# Altium integrated library Analog Devices Amplifiers and Linear Voltage References.IntLib: 547 symbols (part 15 of 20)
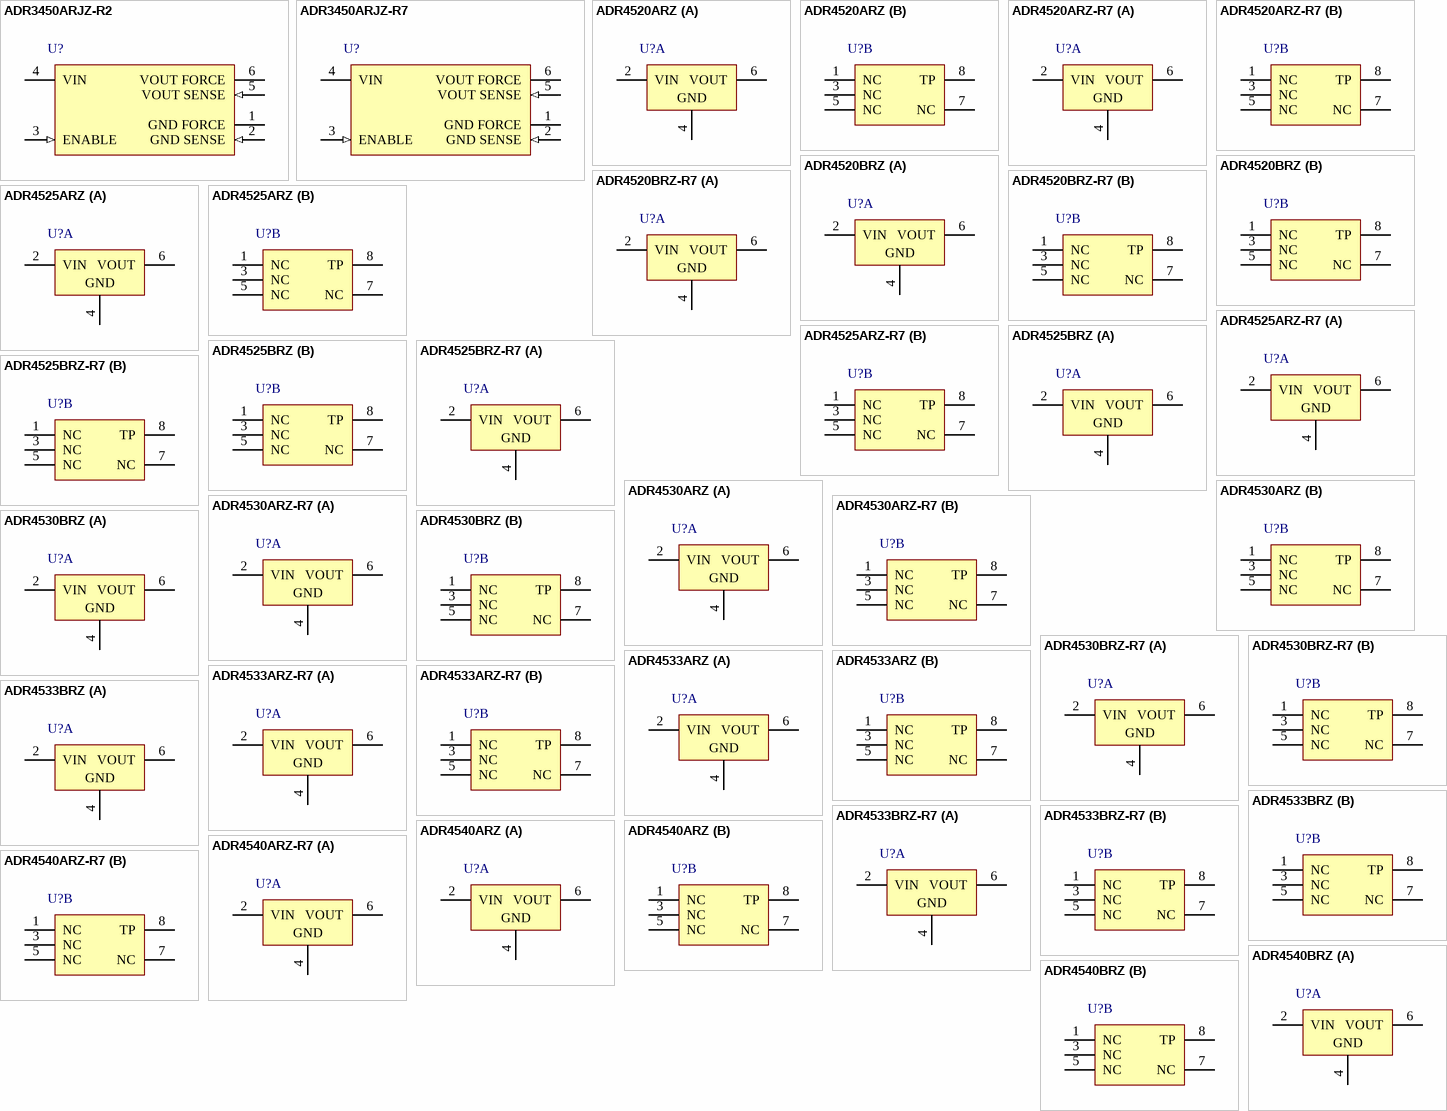
[diagram p34: symbols ADR3450ARJZ-R2 to ADR4540BRZ]

## ADR4533BRZ
designator U?
Ultralow Noise, High Accuracy Voltage Reference, 3.3 V Output, 3 to 15 V Supply, Industrial, 8-pin SOIC (R-8), Tube; Manufacturer: Analog Devices; PartNumber: ADR4533BRZ; Max V Supply (V): 15; Min V Supply (V): 3; Ref Out TC (ppm/C): 2; Vout: 3.3V; DatasheetVersion: Rev. 0; PackageVersion: 060506-A, 06/2006; PackageReference: R-8; PackageDescription: 8-Pin Standard Small Outline Package, Body 4.9 x 3.9 mm, Pitch 1.27 mm; Supplier 1: Digi-Key; Supplier Part Number 1: ADR4533BRZ-ND; Supplier 2: Farnell; Supplier Part Number 2: 2112690; Supplier 3: Mouser; Supplier Part Number 3: 584-ADR4533BRZ; Packing: Tube; Operating Temp Range: -40 to 125 degC; Mounting Technology: Surface Mount; Code_JEDEC: MS-012-AA; ComponentLink1Description: Manufacturer URL; ComponentLink1URL: http://www.analog.com/en/index.html; ComponentLink2Description: Datasheet; ComponentLink2URL: http://www.analog.com/static/imported-files/data_sheets/ADR4520_4525_4530_4533_4540_4550.pdf; ComponentLink3Description: Package Specification; ComponentLink3URL: http://www.analog.com/static/imported-files/packages/PKG_PDF/SOIC_Narrow%20(R)/R_8.pdf; ComponentLink4Description: URL Link1; ComponentLink4URL: Product URL:http://www.analog.com/en/special-linear-functions/voltage-references/adr4533/products/product.html
footprint ADI-R-8_N (SOIC, 8-Leads, Body 4.9x3.9mm, Pitch 1.27mm, IPC Medium Density)
footprint ADI-R-8_L (SOIC, 8-Leads, Body 4.9x3.9mm, Pitch 1.27mm, IPC High Density)
footprint ADI-R-8_M (SOIC, 8-Leads, Body 4.9x3.9mm, Pitch 1.27mm, IPC Low Density)
part A pins: 2 VIN (power) "Input Voltage Connection.", 4 GND (power) "Ground.", 6 VOUT (power) "Output Voltage."
part B pins: 1 NC "No Connect. This pin is not connected internally.", 3 NC "No Connect. This pin is not connected internally.", 5 NC "No Connect. This pin is not connected internally.", 7 NC "No Connect. This pin is not connected internally.", 8 TP "Test Pin. Do not connect."

## ADR4533BRZ-R7
designator U?
Ultralow Noise, High Accuracy Voltage Reference, 3.3 V Output, 3 to 15 V Supply, Industrial, 8-pin SOIC (R-8), Reel; Manufacturer: Analog Devices; PartNumber: ADR4533BRZ-R7; Max V Supply (V): 15; Min V Supply (V): 3; Ref Out TC (ppm/C): 2; Vout: 3.3V; DatasheetVersion: Rev. 0; PackageVersion: 060506-A, 06/2006; PackageReference: R-8; PackageDescription: 8-Pin Standard Small Outline Package, Body 4.9 x 3.9 mm, Pitch 1.27 mm; Supplier 1: Digi-Key; Supplier Part Number 1: ADR4533BRZ-R7-ND; Supplier 2: Mouser; Supplier Part Number 2: 584-ADR4533BRZ-R7; Packing: Reel; Operating Temp Range: -40 to 125 degC; Mounting Technology: Surface Mount; Code_JEDEC: MS-012-AA; ComponentLink1Description: Manufacturer URL; ComponentLink1URL: http://www.analog.com/en/index.html; ComponentLink2Description: Datasheet; ComponentLink2URL: http://www.analog.com/static/imported-files/data_sheets/ADR4520_4525_4530_4533_4540_4550.pdf; ComponentLink3Description: Package Specification; ComponentLink3URL: http://www.analog.com/static/imported-files/packages/PKG_PDF/SOIC_Narrow%20(R)/R_8.pdf; ComponentLink4Description: URL Link1; ComponentLink4URL: Product URL:http://www.analog.com/en/special-linear-functions/voltage-references/adr4533/products/product.html
footprint ADI-R-8_N (SOIC, 8-Leads, Body 4.9x3.9mm, Pitch 1.27mm, IPC Medium Density)
footprint ADI-R-8_L (SOIC, 8-Leads, Body 4.9x3.9mm, Pitch 1.27mm, IPC High Density)
footprint ADI-R-8_M (SOIC, 8-Leads, Body 4.9x3.9mm, Pitch 1.27mm, IPC Low Density)
part A pins: 2 VIN (power) "Input Voltage Connection.", 4 GND (power) "Ground.", 6 VOUT (power) "Output Voltage."
part B pins: 1 NC "No Connect. This pin is not connected internally.", 3 NC "No Connect. This pin is not connected internally.", 5 NC "No Connect. This pin is not connected internally.", 7 NC "No Connect. This pin is not connected internally.", 8 TP "Test Pin. Do not connect."

## ADR4540ARZ
designator U?
Ultralow Noise, High Accuracy Voltage Reference, 4.096 V Output, 3 to 15 V Supply, Industrial, 8-pin SOIC (R-8), Tube; Manufacturer: Analog Devices; PartNumber: ADR4540ARZ; Max V Supply (V): 15; Min V Supply (V): 3; Ref Out TC (ppm/C): 4; Vout: 4.096V; DatasheetVersion: Rev. 0; PackageVersion: 060506-A, 06/2006; PackageReference: R-8; PackageDescription: 8-Pin Standard Small Outline Package, Body 4.9 x 3.9 mm, Pitch 1.27 mm; Supplier 1: Digi-Key; Supplier Part Number 1: ADR4540ARZ-ND; Supplier 2: Farnell; Supplier Part Number 2: 2112691; Supplier 3: Mouser; Supplier Part Number 3: 584-ADR4540ARZ; Packing: Tube; Operating Temp Range: -40 to 125 degC; Mounting Technology: Surface Mount; Code_JEDEC: MS-012-AA; ComponentLink1Description: Manufacturer URL; ComponentLink1URL: http://www.analog.com/en/index.html; ComponentLink2Description: Datasheet; ComponentLink2URL: http://www.analog.com/static/imported-files/data_sheets/ADR4520_4525_4530_4533_4540_4550.pdf; ComponentLink3Description: Package Specification; ComponentLink3URL: http://www.analog.com/static/imported-files/packages/PKG_PDF/SOIC_Narrow%20(R)/R_8.pdf; ComponentLink4Description: URL Link1; ComponentLink4URL: Product URL:http://www.analog.com/en/special-linear-functions/voltage-references/adr4540/products/product.html
footprint ADI-R-8_N (SOIC, 8-Leads, Body 4.9x3.9mm, Pitch 1.27mm, IPC Medium Density)
footprint ADI-R-8_L (SOIC, 8-Leads, Body 4.9x3.9mm, Pitch 1.27mm, IPC High Density)
footprint ADI-R-8_M (SOIC, 8-Leads, Body 4.9x3.9mm, Pitch 1.27mm, IPC Low Density)
part A pins: 2 VIN (power) "Input Voltage Connection.", 4 GND (power) "Ground.", 6 VOUT (power) "Output Voltage."
part B pins: 1 NC "No Connect. This pin is not connected internally.", 3 NC "No Connect. This pin is not connected internally.", 5 NC "No Connect. This pin is not connected internally.", 7 NC "No Connect. This pin is not connected internally.", 8 TP "Test Pin. Do not connect."

## ADR4540ARZ-R7
designator U?
Ultralow Noise, High Accuracy Voltage Reference, 4.096 V Output, 3 to 15 V Supply, Industrial, 8-pin SOIC (R-8), Reel; Manufacturer: Analog Devices; PartNumber: ADR4540ARZ-R7; Max V Supply (V): 15; Min V Supply (V): 3; Ref Out TC (ppm/C): 4; Vout: 4.096V; DatasheetVersion: Rev. 0; PackageVersion: 060506-A, 06/2006; PackageReference: R-8; PackageDescription: 8-Pin Standard Small Outline Package, Body 4.9 x 3.9 mm, Pitch 1.27 mm; Supplier 1: Digi-Key; Supplier Part Number 1: ADR4540ARZ-R7-ND; Supplier 2: Mouser; Supplier Part Number 2: 584-ADR4540ARZ-R7; Packing: Reel; Operating Temp Range: -40 to 125 degC; Mounting Technology: Surface Mount; Code_JEDEC: MS-012-AA; ComponentLink1Description: Manufacturer URL; ComponentLink1URL: http://www.analog.com/en/index.html; ComponentLink2Description: Datasheet; ComponentLink2URL: http://www.analog.com/static/imported-files/data_sheets/ADR4520_4525_4530_4533_4540_4550.pdf; ComponentLink3Description: Package Specification; ComponentLink3URL: http://www.analog.com/static/imported-files/packages/PKG_PDF/SOIC_Narrow%20(R)/R_8.pdf; ComponentLink4Description: URL Link1; ComponentLink4URL: Product URL:http://www.analog.com/en/special-linear-functions/voltage-references/adr4540/products/product.html
footprint ADI-R-8_N (SOIC, 8-Leads, Body 4.9x3.9mm, Pitch 1.27mm, IPC Medium Density)
footprint ADI-R-8_L (SOIC, 8-Leads, Body 4.9x3.9mm, Pitch 1.27mm, IPC High Density)
footprint ADI-R-8_M (SOIC, 8-Leads, Body 4.9x3.9mm, Pitch 1.27mm, IPC Low Density)
part A pins: 2 VIN (power) "Input Voltage Connection.", 4 GND (power) "Ground.", 6 VOUT (power) "Output Voltage."
part B pins: 1 NC "No Connect. This pin is not connected internally.", 3 NC "No Connect. This pin is not connected internally.", 5 NC "No Connect. This pin is not connected internally.", 7 NC "No Connect. This pin is not connected internally.", 8 TP "Test Pin. Do not connect."

## ADR4540BRZ
designator U?
Ultralow Noise, High Accuracy Voltage Reference, 4.096 V Output, 3 to 15 V Supply, Industrial, 8-pin SOIC (R-8), Tube; Manufacturer: Analog Devices; PartNumber: ADR4540BRZ; Max V Supply (V): 15; Min V Supply (V): 3; Ref Out TC (ppm/C): 2; Vout: 4.096V; DatasheetVersion: Rev. 0; PackageVersion: 060506-A, 06/2006; PackageReference: R-8; PackageDescription: 8-Pin Standard Small Outline Package, Body 4.9 x 3.9 mm, Pitch 1.27 mm; Supplier 1: Digi-Key; Supplier Part Number 1: ADR4540BRZ-ND; Supplier 2: Farnell; Supplier Part Number 2: 2112692; Supplier 3: Mouser; Supplier Part Number 3: 584-ADR4540BRZ; Packing: Tube; Operating Temp Range: -40 to 125 degC; Mounting Technology: Surface Mount; Code_JEDEC: MS-012-AA; ComponentLink1Description: Manufacturer URL; ComponentLink1URL: http://www.analog.com/en/index.html; ComponentLink2Description: Datasheet; ComponentLink2URL: http://www.analog.com/static/imported-files/data_sheets/ADR4520_4525_4530_4533_4540_4550.pdf; ComponentLink3Description: Package Specification; ComponentLink3URL: http://www.analog.com/static/imported-files/packages/PKG_PDF/SOIC_Narrow%20(R)/R_8.pdf; ComponentLink4Description: URL Link1; ComponentLink4URL: Product URL:http://www.analog.com/en/special-linear-functions/voltage-references/adr4540/products/product.html
footprint ADI-R-8_N (SOIC, 8-Leads, Body 4.9x3.9mm, Pitch 1.27mm, IPC Medium Density)
footprint ADI-R-8_L (SOIC, 8-Leads, Body 4.9x3.9mm, Pitch 1.27mm, IPC High Density)
footprint ADI-R-8_M (SOIC, 8-Leads, Body 4.9x3.9mm, Pitch 1.27mm, IPC Low Density)
part A pins: 2 VIN (power) "Input Voltage Connection.", 4 GND (power) "Ground.", 6 VOUT (power) "Output Voltage."
part B pins: 1 NC "No Connect. This pin is not connected internally.", 3 NC "No Connect. This pin is not connected internally.", 5 NC "No Connect. This pin is not connected internally.", 7 NC "No Connect. This pin is not connected internally.", 8 TP "Test Pin. Do not connect."

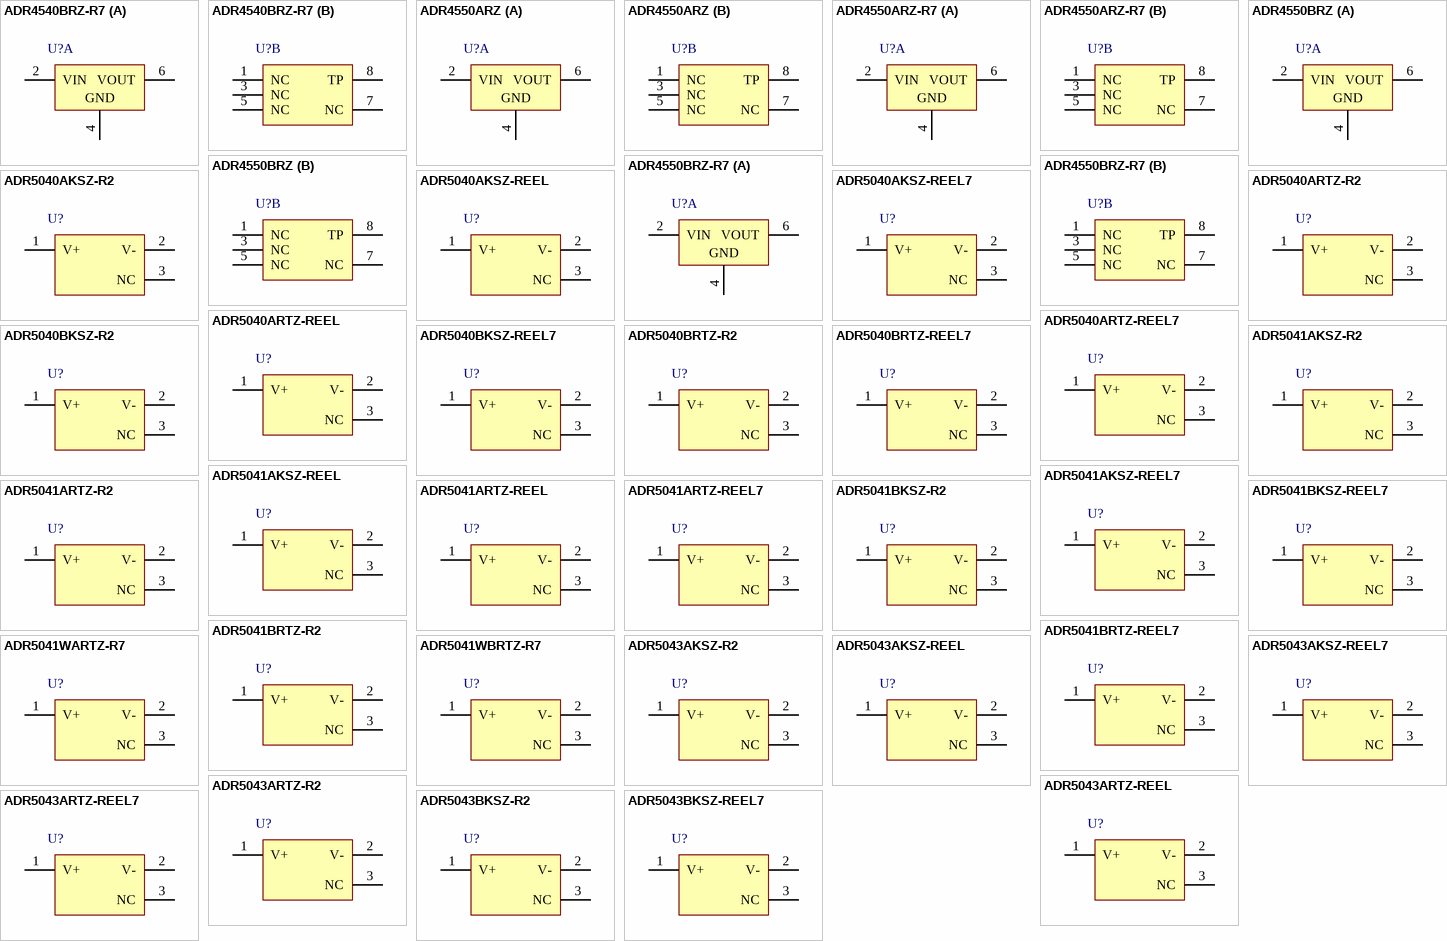
[diagram p16: symbols ADR4540BRZ-R7 to ADR5043BKSZ-REEL7]

## ADR4540BRZ-R7
designator U?
Ultralow Noise, High Accuracy Voltage Reference, 4.096 V Output, 3 to 15 V Supply, Industrial, 8-pin SOIC (R-8), Reel; Manufacturer: Analog Devices; PartNumber: ADR4540BRZ-R7; Max V Supply (V): 15; Min V Supply (V): 3; Ref Out TC (ppm/C): 2; Vout: 4.096V; DatasheetVersion: Rev. 0; PackageVersion: 060506-A, 06/2006; PackageReference: R-8; PackageDescription: 8-Pin Standard Small Outline Package, Body 4.9 x 3.9 mm, Pitch 1.27 mm; Supplier 1: Digi-Key; Supplier Part Number 1: ADR4540BRZ-R7-ND; Supplier 2: Mouser; Supplier Part Number 2: 584-ADR4540BRZ-R7; Packing: Reel; Operating Temp Range: -40 to 125 degC; Mounting Technology: Surface Mount; Code_JEDEC: MS-012-AA; ComponentLink1Description: Manufacturer URL; ComponentLink1URL: http://www.analog.com/en/index.html; ComponentLink2Description: Datasheet; ComponentLink2URL: http://www.analog.com/static/imported-files/data_sheets/ADR4520_4525_4530_4533_4540_4550.pdf; ComponentLink3Description: Package Specification; ComponentLink3URL: http://www.analog.com/static/imported-files/packages/PKG_PDF/SOIC_Narrow%20(R)/R_8.pdf; ComponentLink4Description: URL Link1; ComponentLink4URL: Product URL:http://www.analog.com/en/special-linear-functions/voltage-references/adr4540/products/product.html
footprint ADI-R-8_N (SOIC, 8-Leads, Body 4.9x3.9mm, Pitch 1.27mm, IPC Medium Density)
footprint ADI-R-8_L (SOIC, 8-Leads, Body 4.9x3.9mm, Pitch 1.27mm, IPC High Density)
footprint ADI-R-8_M (SOIC, 8-Leads, Body 4.9x3.9mm, Pitch 1.27mm, IPC Low Density)
part A pins: 2 VIN (power) "Input Voltage Connection.", 4 GND (power) "Ground.", 6 VOUT (power) "Output Voltage."
part B pins: 1 NC "No Connect. This pin is not connected internally.", 3 NC "No Connect. This pin is not connected internally.", 5 NC "No Connect. This pin is not connected internally.", 7 NC "No Connect. This pin is not connected internally.", 8 TP "Test Pin. Do not connect."

## ADR4550ARZ
designator U?
Ultralow Noise, High Accuracy Voltage Reference, 5 V Output, 3 to 15 V Supply, Industrial, 8-pin SOIC (R-8), Tube; Manufacturer: Analog Devices; PartNumber: ADR4550ARZ; Max V Supply (V): 15; Min V Supply (V): 3; Ref Out TC (ppm/C): 4; Vout: 5V; DatasheetVersion: Rev. 0; PackageVersion: 060506-A, 06/2006; PackageReference: R-8; PackageDescription: 8-Pin Standard Small Outline Package, Body 4.9 x 3.9 mm, Pitch 1.27 mm; Supplier 1: Digi-Key; Supplier Part Number 1: ADR4550ARZ-ND; Supplier 2: Farnell; Supplier Part Number 2: 2112694; Supplier 3: Farnell; Supplier Part Number 3: 2164282; Supplier 4: Mouser; Supplier Part Number 4: 584-ADR4550ARZ; Packing: Tube; Operating Temp Range: -40 to 125 degC; Mounting Technology: Surface Mount; Code_JEDEC: MS-012-AA; ComponentLink1Description: Manufacturer URL; ComponentLink1URL: http://www.analog.com/en/index.html; ComponentLink2Description: Datasheet; ComponentLink2URL: http://www.analog.com/static/imported-files/data_sheets/ADR4520_4525_4530_4533_4540_4550.pdf; ComponentLink3Description: Package Specification; ComponentLink3URL: http://www.analog.com/static/imported-files/packages/PKG_PDF/SOIC_Narrow%20(R)/R_8.pdf; ComponentLink4Description: URL Link1; ComponentLink4URL: Product URL:http://www.analog.com/en/special-linear-functions/voltage-references/adr4550/products/product.html
footprint ADI-R-8_N (SOIC, 8-Leads, Body 4.9x3.9mm, Pitch 1.27mm, IPC Medium Density)
footprint ADI-R-8_L (SOIC, 8-Leads, Body 4.9x3.9mm, Pitch 1.27mm, IPC High Density)
footprint ADI-R-8_M (SOIC, 8-Leads, Body 4.9x3.9mm, Pitch 1.27mm, IPC Low Density)
part A pins: 2 VIN (power) "Input Voltage Connection.", 4 GND (power) "Ground.", 6 VOUT (power) "Output Voltage."
part B pins: 1 NC "No Connect. This pin is not connected internally.", 3 NC "No Connect. This pin is not connected internally.", 5 NC "No Connect. This pin is not connected internally.", 7 NC "No Connect. This pin is not connected internally.", 8 TP "Test Pin. Do not connect."

## ADR4550ARZ-R7
designator U?
Ultralow Noise, High Accuracy Voltage Reference, 5 V Output, 3 to 15 V Supply, Industrial, 8-pin SOIC (R-8), Reel; Manufacturer: Analog Devices; PartNumber: ADR4550ARZ-R7; Max V Supply (V): 15; Min V Supply (V): 3; Ref Out TC (ppm/C): 4; Vout: 5V; DatasheetVersion: Rev. 0; PackageVersion: 060506-A, 06/2006; PackageReference: R-8; PackageDescription: 8-Pin Standard Small Outline Package, Body 4.9 x 3.9 mm, Pitch 1.27 mm; Supplier 1: Digi-Key; Supplier Part Number 1: ADR4550ARZ-R7-ND; Supplier 2: Mouser; Supplier Part Number 2: 584-ADR4550ARZ-R7; Packing: Reel; Operating Temp Range: -40 to 125 degC; Mounting Technology: Surface Mount; Code_JEDEC: MS-012-AA; ComponentLink1Description: Manufacturer URL; ComponentLink1URL: http://www.analog.com/en/index.html; ComponentLink2Description: Datasheet; ComponentLink2URL: http://www.analog.com/static/imported-files/data_sheets/ADR4520_4525_4530_4533_4540_4550.pdf; ComponentLink3Description: Package Specification; ComponentLink3URL: http://www.analog.com/static/imported-files/packages/PKG_PDF/SOIC_Narrow%20(R)/R_8.pdf; ComponentLink4Description: URL Link1; ComponentLink4URL: Product URL:http://www.analog.com/en/special-linear-functions/voltage-references/adr4550/products/product.html
footprint ADI-R-8_N (SOIC, 8-Leads, Body 4.9x3.9mm, Pitch 1.27mm, IPC Medium Density)
footprint ADI-R-8_L (SOIC, 8-Leads, Body 4.9x3.9mm, Pitch 1.27mm, IPC High Density)
footprint ADI-R-8_M (SOIC, 8-Leads, Body 4.9x3.9mm, Pitch 1.27mm, IPC Low Density)
part A pins: 2 VIN (power) "Input Voltage Connection.", 4 GND (power) "Ground.", 6 VOUT (power) "Output Voltage."
part B pins: 1 NC "No Connect. This pin is not connected internally.", 3 NC "No Connect. This pin is not connected internally.", 5 NC "No Connect. This pin is not connected internally.", 7 NC "No Connect. This pin is not connected internally.", 8 TP "Test Pin. Do not connect."

## ADR4550BRZ
designator U?
Ultralow Noise, High Accuracy Voltage Reference, 5 V Output, 3 to 15 V Supply, Industrial, 8-pin SOIC (R-8), Tube; Manufacturer: Analog Devices; PartNumber: ADR4550BRZ; Max V Supply (V): 15; Min V Supply (V): 3; Ref Out TC (ppm/C): 2; Vout: 5V; DatasheetVersion: Rev. 0; PackageVersion: 060506-A, 06/2006; PackageReference: R-8; PackageDescription: 8-Pin Standard Small Outline Package, Body 4.9 x 3.9 mm, Pitch 1.27 mm; Supplier 1: Digi-Key; Supplier Part Number 1: ADR4550BRZ-ND; Supplier 2: Farnell; Supplier Part Number 2: 2112695; Supplier 3: Mouser; Supplier Part Number 3: 584-ADR4550BRZ; Packing: Tube; Operating Temp Range: -40 to 125 degC; Mounting Technology: Surface Mount; Code_JEDEC: MS-012-AA; ComponentLink1Description: Manufacturer URL; ComponentLink1URL: http://www.analog.com/en/index.html; ComponentLink2Description: Datasheet; ComponentLink2URL: http://www.analog.com/static/imported-files/data_sheets/ADR4520_4525_4530_4533_4540_4550.pdf; ComponentLink3Description: Package Specification; ComponentLink3URL: http://www.analog.com/static/imported-files/packages/PKG_PDF/SOIC_Narrow%20(R)/R_8.pdf; ComponentLink4Description: URL Link1; ComponentLink4URL: Product URL:http://www.analog.com/en/special-linear-functions/voltage-references/adr4550/products/product.html
footprint ADI-R-8_N (SOIC, 8-Leads, Body 4.9x3.9mm, Pitch 1.27mm, IPC Medium Density)
footprint ADI-R-8_L (SOIC, 8-Leads, Body 4.9x3.9mm, Pitch 1.27mm, IPC High Density)
footprint ADI-R-8_M (SOIC, 8-Leads, Body 4.9x3.9mm, Pitch 1.27mm, IPC Low Density)
part A pins: 2 VIN (power) "Input Voltage Connection.", 4 GND (power) "Ground.", 6 VOUT (power) "Output Voltage."
part B pins: 1 NC "No Connect. This pin is not connected internally.", 3 NC "No Connect. This pin is not connected internally.", 5 NC "No Connect. This pin is not connected internally.", 7 NC "No Connect. This pin is not connected internally.", 8 TP "Test Pin. Do not connect."

## ADR4550BRZ-R7
designator U?
Ultralow Noise, High Accuracy Voltage Reference, 5 V Output, 3 to 15 V Supply, Industrial, 8-pin SOIC (R-8), Reel; Manufacturer: Analog Devices; PartNumber: ADR4550BRZ-R7; Max V Supply (V): 15; Min V Supply (V): 3; Ref Out TC (ppm/C): 2; Vout: 5V; DatasheetVersion: Rev. 0; PackageVersion: 060506-A, 06/2006; PackageReference: R-8; PackageDescription: 8-Pin Standard Small Outline Package, Body 4.9 x 3.9 mm, Pitch 1.27 mm; Supplier 1: Digi-Key; Supplier Part Number 1: ADR4550BRZ-R7-ND; Supplier 2: Mouser; Supplier Part Number 2: 584-ADR4550BRZ-R7; Packing: Reel; Operating Temp Range: -40 to 125 degC; Mounting Technology: Surface Mount; Code_JEDEC: MS-012-AA; ComponentLink1Description: Manufacturer URL; ComponentLink1URL: http://www.analog.com/en/index.html; ComponentLink2Description: Datasheet; ComponentLink2URL: http://www.analog.com/static/imported-files/data_sheets/ADR4520_4525_4530_4533_4540_4550.pdf; ComponentLink3Description: Package Specification; ComponentLink3URL: http://www.analog.com/static/imported-files/packages/PKG_PDF/SOIC_Narrow%20(R)/R_8.pdf; ComponentLink4Description: URL Link1; ComponentLink4URL: Product URL:http://www.analog.com/en/special-linear-functions/voltage-references/adr4550/products/product.html
footprint ADI-R-8_N (SOIC, 8-Leads, Body 4.9x3.9mm, Pitch 1.27mm, IPC Medium Density)
footprint ADI-R-8_L (SOIC, 8-Leads, Body 4.9x3.9mm, Pitch 1.27mm, IPC High Density)
footprint ADI-R-8_M (SOIC, 8-Leads, Body 4.9x3.9mm, Pitch 1.27mm, IPC Low Density)
part A pins: 2 VIN (power) "Input Voltage Connection.", 4 GND (power) "Ground.", 6 VOUT (power) "Output Voltage."
part B pins: 1 NC "No Connect. This pin is not connected internally.", 3 NC "No Connect. This pin is not connected internally.", 5 NC "No Connect. This pin is not connected internally.", 7 NC "No Connect. This pin is not connected internally.", 8 TP "Test Pin. Do not connect."

## ADR5040AKSZ-R2
designator U?
Precision Micropower Shunt Mode Voltage Reference, 2.048 V Output, Industrial, 3-pin SOT23 (KS-3), Reel; Manufacturer: Analog Devices; PartNumber: ADR5040AKSZ-R2; Ref Out TC (ppm/C): 10; Vout: 2.048V; DatasheetVersion: Rev. B; PackageVersion: 072809-A, 07/2009; PackageReference: KS-3; PackageDescription: 3-Pin Thin Shrink Small Outline Transistor Package, Body 2 x 1.25 mm, Pitch 0.65 mm; Supplier 1: Digi-Key; Supplier Part Number 1: ADR5040AKSZ-R2TR-ND; Supplier 2: Digi-Key; Supplier Part Number 2: ADR5040AKSZ-R2CT-ND; Supplier 3: Digi-Key; Supplier Part Number 3: ADR5040AKSZ-R2DKR-ND; Supplier 4: Mouser; Supplier Part Number 4: 584-ADR5040AKSZ-R2; Packing: Reel; Operating Temp Range: -40 to 125 degC; Mounting Technology: Surface Mount; ComponentLink1Description: Manufacturer URL; ComponentLink1URL: http://www.analog.com/en/index.html; ComponentLink2Description: Datasheet; ComponentLink2URL: http://www.analog.com/static/imported-files/data_sheets/ADR5040_5041_5043_5044_5045.pdf; ComponentLink3Description: Package Specification; ComponentLink3URL: http:/www.analog.com/static/imported-files/packages/PKG_PDF/SC70(KS)/KS_3.pdf; ComponentLink4Description: URL Link1; ComponentLink4URL: Product URL:http://www.analog.com/en/special-linear-functions/voltage-references/adr5040/products/product.html
footprint ADI-KS-3_N (SOT23, 3-Leads, Body 2x1.25mm, Pitch 0.65mm, IPC Medium Density)
footprint ADI-KS-3_L (SOT23, 3-Leads, Body 2x1.25mm, Pitch 0.65mm, IPC High Density)
footprint ADI-KS-3_M (SOT23, 3-Leads, Body 2x1.25mm, Pitch 0.65mm, IPC Low Density)
pins: 1 V+ (power), 2 V- (power), 3 NC

## ADR5040AKSZ-REEL
designator U?
Precision Micropower Shunt Mode Voltage Reference, 2.048 V Output, Industrial, 3-pin SOT23 (KS-3), Reel; Manufacturer: Analog Devices; PartNumber: ADR5040AKSZ-REEL; Ref Out TC (ppm/C): 10; Vout: 2.048V; DatasheetVersion: Rev. B; PackageVersion: 072809-A, 07/2009; PackageReference: KS-3; PackageDescription: 3-Pin Thin Shrink Small Outline Transistor Package, Body 2 x 1.25 mm, Pitch 0.65 mm; Supplier 1: Digi-Key; Supplier Part Number 1: ADR5040AKSZ-REEL-ND; Supplier 2: Mouser; Supplier Part Number 2: 584-ADR5040AKSZ-R; Packing: Reel; Operating Temp Range: -40 to 125 degC; Mounting Technology: Surface Mount; ComponentLink1Description: Manufacturer URL; ComponentLink1URL: http://www.analog.com/en/index.html; ComponentLink2Description: Datasheet; ComponentLink2URL: http://www.analog.com/static/imported-files/data_sheets/ADR5040_5041_5043_5044_5045.pdf; ComponentLink3Description: Package Specification; ComponentLink3URL: http:/www.analog.com/static/imported-files/packages/PKG_PDF/SC70(KS)/KS_3.pdf; ComponentLink4Description: URL Link1; ComponentLink4URL: Product URL:http://www.analog.com/en/special-linear-functions/voltage-references/adr5040/products/product.html
footprint ADI-KS-3_N (SOT23, 3-Leads, Body 2x1.25mm, Pitch 0.65mm, IPC Medium Density)
footprint ADI-KS-3_L (SOT23, 3-Leads, Body 2x1.25mm, Pitch 0.65mm, IPC High Density)
footprint ADI-KS-3_M (SOT23, 3-Leads, Body 2x1.25mm, Pitch 0.65mm, IPC Low Density)
pins: 1 V+ (power), 2 V- (power), 3 NC

## ADR5040AKSZ-REEL7
designator U?
Precision Micropower Shunt Mode Voltage Reference, 2.048 V Output, Industrial, 3-pin SOT23 (KS-3), Reel; Manufacturer: Analog Devices; PartNumber: ADR5040AKSZ-REEL7; Ref Out TC (ppm/C): 10; Vout: 2.048V; DatasheetVersion: Rev. B; PackageVersion: 072809-A, 07/2009; PackageReference: KS-3; PackageDescription: 3-Pin Thin Shrink Small Outline Transistor Package, Body 2 x 1.25 mm, Pitch 0.65 mm; Supplier 1: Digi-Key; Supplier Part Number 1: ADR5040AKSZ-REEL7-ND; Supplier 2: Mouser; Supplier Part Number 2: 584-ADR5040AKSZ-R7; Packing: Reel; Operating Temp Range: -40 to 125 degC; Mounting Technology: Surface Mount; ComponentLink1Description: Manufacturer URL; ComponentLink1URL: http://www.analog.com/en/index.html; ComponentLink2Description: Datasheet; ComponentLink2URL: http://www.analog.com/static/imported-files/data_sheets/ADR5040_5041_5043_5044_5045.pdf; ComponentLink3Description: Package Specification; ComponentLink3URL: http:/www.analog.com/static/imported-files/packages/PKG_PDF/SC70(KS)/KS_3.pdf; ComponentLink4Description: URL Link1; ComponentLink4URL: Product URL:http://www.analog.com/en/special-linear-functions/voltage-references/adr5040/products/product.html
footprint ADI-KS-3_N (SOT23, 3-Leads, Body 2x1.25mm, Pitch 0.65mm, IPC Medium Density)
footprint ADI-KS-3_L (SOT23, 3-Leads, Body 2x1.25mm, Pitch 0.65mm, IPC High Density)
footprint ADI-KS-3_M (SOT23, 3-Leads, Body 2x1.25mm, Pitch 0.65mm, IPC Low Density)
pins: 1 V+ (power), 2 V- (power), 3 NC

## ADR5040ARTZ-R2
designator U?
Precision Micropower Shunt Mode Voltage Reference, 2.048 V Output, Industrial, 3-pin SOT23 (RT-3), Reel; Manufacturer: Analog Devices; PartNumber: ADR5040ARTZ-R2; Ref Out TC (ppm/C): 10; Vout: 2.048V; DatasheetVersion: Rev. B; PackageVersion: 011909-C, 02/2009; PackageReference: RT-3; PackageDescription: 3-Pin Small Outline Transistor Package, Body 2.9 x 1.3 mm, Pitch 0.96 mm; Supplier 1: Digi-Key; Supplier Part Number 1: ADR5040ARTZ-R2TR-ND; Supplier 2: Digi-Key; Supplier Part Number 2: ADR5040ARTZ-R2CT-ND; Supplier 3: Digi-Key; Supplier Part Number 3: ADR5040ARTZ-R2DKR-ND; Supplier 4: Mouser; Supplier Part Number 4: 584-ADR5040ARTZ-R2; Packing: Reel; Operating Temp Range: -40 to 125 degC; Mounting Technology: Surface Mount; Code_JEDEC: TO-236-AB; ComponentLink1Description: Manufacturer URL; ComponentLink1URL: http://www.analog.com/en/index.html; ComponentLink2Description: Datasheet; ComponentLink2URL: http://www.analog.com/static/imported-files/data_sheets/ADR5040_5041_5043_5044_5045.pdf; ComponentLink3Description: Package Specification; ComponentLink3URL: http:/www.analog.com/static/imported-files/packages/PKG_PDF/SOT-23-3 (RT)/RT_3.pdf; ComponentLink4Description: URL Link1; ComponentLink4URL: Product URL:http://www.analog.com/en/special-linear-functions/voltage-references/adr5040/products/product.html
footprint ADI-RT-3_N (SOT23, 3-Leads, Body 2.9x1.3mm, Pitch 0.96mm, IPC Medium Density)
footprint ADI-RT-3_L (SOT23, 3-Leads, Body 2.9x1.3mm, Pitch 0.96mm, IPC High Density)
footprint ADI-RT-3_M (SOT23, 3-Leads, Body 2.9x1.3mm, Pitch 0.96mm, IPC Low Density)
pins: 1 V+ (power), 2 V- (power), 3 NC

## ADR5040ARTZ-REEL
designator U?
Precision Micropower Shunt Mode Voltage Reference, 2.048 V Output, Industrial, 3-pin SOT23 (RT-3), Reel; Manufacturer: Analog Devices; PartNumber: ADR5040ARTZ-REEL; Ref Out TC (ppm/C): 10; Vout: 2.048V; DatasheetVersion: Rev. B; PackageVersion: 011909-C, 02/2009; PackageReference: RT-3; PackageDescription: 3-Pin Small Outline Transistor Package, Body 2.9 x 1.3 mm, Pitch 0.96 mm; Supplier 1: Digi-Key; Supplier Part Number 1: ADR5040ARTZ-REEL-ND; Supplier 2: Mouser; Supplier Part Number 2: 584-ADR5040ARTZ-R; Packing: Reel; Operating Temp Range: -40 to 125 degC; Mounting Technology: Surface Mount; Code_JEDEC: TO-236-AB; ComponentLink1Description: Manufacturer URL; ComponentLink1URL: http://www.analog.com/en/index.html; ComponentLink2Description: Datasheet; ComponentLink2URL: http://www.analog.com/static/imported-files/data_sheets/ADR5040_5041_5043_5044_5045.pdf; ComponentLink3Description: Package Specification; ComponentLink3URL: http:/www.analog.com/static/imported-files/packages/PKG_PDF/SOT-23-3 (RT)/RT_3.pdf; ComponentLink4Description: URL Link1; ComponentLink4URL: Product URL:http://www.analog.com/en/special-linear-functions/voltage-references/adr5040/products/product.html
footprint ADI-RT-3_N (SOT23, 3-Leads, Body 2.9x1.3mm, Pitch 0.96mm, IPC Medium Density)
footprint ADI-RT-3_L (SOT23, 3-Leads, Body 2.9x1.3mm, Pitch 0.96mm, IPC High Density)
footprint ADI-RT-3_M (SOT23, 3-Leads, Body 2.9x1.3mm, Pitch 0.96mm, IPC Low Density)
pins: 1 V+ (power), 2 V- (power), 3 NC

## ADR5040ARTZ-REEL7
designator U?
Precision Micropower Shunt Mode Voltage Reference, 2.048 V Output, Industrial, 3-pin SOT23 (RT-3), Reel; Manufacturer: Analog Devices; PartNumber: ADR5040ARTZ-REEL7; Ref Out TC (ppm/C): 10; Vout: 2.048V; DatasheetVersion: Rev. B; PackageVersion: 011909-C, 02/2009; PackageReference: RT-3; PackageDescription: 3-Pin Small Outline Transistor Package, Body 2.9 x 1.3 mm, Pitch 0.96 mm; Supplier 1: Digi-Key; Supplier Part Number 1: ADR5040ARTZ-REEL7TR-ND; Supplier 2: Digi-Key; Supplier Part Number 2: ADR5040ARTZ-REEL7CT-ND; Supplier 3: Digi-Key; Supplier Part Number 3: ADR5040ARTZ-REEL7DKR-ND; Supplier 4: Newark; Supplier Part Number 4: 34M4872; Supplier 5: Mouser; Supplier Part Number 5: 584-ADR5040ARTZ-R7; Packing: Reel; Operating Temp Range: -40 to 125 degC; Mounting Technology: Surface Mount; Code_JEDEC: TO-236-AB; ComponentLink1Description: Manufacturer URL; ComponentLink1URL: http://www.analog.com/en/index.html; ComponentLink2Description: Datasheet; ComponentLink2URL: http://www.analog.com/static/imported-files/data_sheets/ADR5040_5041_5043_5044_5045.pdf; ComponentLink3Description: Package Specification; ComponentLink3URL: http:/www.analog.com/static/imported-files/packages/PKG_PDF/SOT-23-3 (RT)/RT_3.pdf; ComponentLink4Description: URL Link1; ComponentLink4URL: Product URL:http://www.analog.com/en/special-linear-functions/voltage-references/adr5040/products/product.html
footprint ADI-RT-3_N (SOT23, 3-Leads, Body 2.9x1.3mm, Pitch 0.96mm, IPC Medium Density)
footprint ADI-RT-3_L (SOT23, 3-Leads, Body 2.9x1.3mm, Pitch 0.96mm, IPC High Density)
footprint ADI-RT-3_M (SOT23, 3-Leads, Body 2.9x1.3mm, Pitch 0.96mm, IPC Low Density)
pins: 1 V+ (power), 2 V- (power), 3 NC

## ADR5040BKSZ-R2
designator U?
Precision Micropower Shunt Mode Voltage Reference, 2.048 V Output, Industrial, 3-pin SOT23 (KS-3), Reel; Manufacturer: Analog Devices; PartNumber: ADR5040BKSZ-R2; Ref Out TC (ppm/C): 10; Vout: 2.048V; DatasheetVersion: Rev. B; PackageVersion: 072809-A, 07/2009; PackageReference: KS-3; PackageDescription: 3-Pin Thin Shrink Small Outline Transistor Package, Body 2 x 1.25 mm, Pitch 0.65 mm; Supplier 1: Digi-Key; Supplier Part Number 1: ADR5040BKSZ-R2TR-ND; Supplier 2: Digi-Key; Supplier Part Number 2: ADR5040BKSZ-R2CT-ND; Supplier 3: Digi-Key; Supplier Part Number 3: ADR5040BKSZ-R2DKR-ND; Supplier 4: Newark; Supplier Part Number 4: 34M4875; Supplier 5: Mouser; Supplier Part Number 5: 584-ADR5040BKSZ-R2; Packing: Reel; Operating Temp Range: -40 to 125 degC; Mounting Technology: Surface Mount; ComponentLink1Description: Manufacturer URL; ComponentLink1URL: http://www.analog.com/en/index.html; ComponentLink2Description: Datasheet; ComponentLink2URL: http://www.analog.com/static/imported-files/data_sheets/ADR5040_5041_5043_5044_5045.pdf; ComponentLink3Description: Package Specification; ComponentLink3URL: http:/www.analog.com/static/imported-files/packages/PKG_PDF/SC70(KS)/KS_3.pdf; ComponentLink4Description: URL Link1; ComponentLink4URL: Product URL:http://www.analog.com/en/special-linear-functions/voltage-references/adr5040/products/product.html
footprint ADI-KS-3_N (SOT23, 3-Leads, Body 2x1.25mm, Pitch 0.65mm, IPC Medium Density)
footprint ADI-KS-3_L (SOT23, 3-Leads, Body 2x1.25mm, Pitch 0.65mm, IPC High Density)
footprint ADI-KS-3_M (SOT23, 3-Leads, Body 2x1.25mm, Pitch 0.65mm, IPC Low Density)
pins: 1 V+ (power), 2 V- (power), 3 NC

## ADR5040BKSZ-REEL7
designator U?
Precision Micropower Shunt Mode Voltage Reference, 2.048 V Output, Industrial, 3-pin SOT23 (KS-3), Reel; Manufacturer: Analog Devices; PartNumber: ADR5040BKSZ-REEL7; Ref Out TC (ppm/C): 10; Vout: 2.048V; DatasheetVersion: Rev. B; PackageVersion: 072809-A, 07/2009; PackageReference: KS-3; PackageDescription: 3-Pin Thin Shrink Small Outline Transistor Package, Body 2 x 1.25 mm, Pitch 0.65 mm; Supplier 1: Digi-Key; Supplier Part Number 1: ADR5040BKSZ-REEL7-ND; Supplier 2: Mouser; Supplier Part Number 2: 584-ADR5040BKSZ-R7; Packing: Reel; Operating Temp Range: -40 to 125 degC; Mounting Technology: Surface Mount; ComponentLink1Description: Manufacturer URL; ComponentLink1URL: http://www.analog.com/en/index.html; ComponentLink2Description: Datasheet; ComponentLink2URL: http://www.analog.com/static/imported-files/data_sheets/ADR5040_5041_5043_5044_5045.pdf; ComponentLink3Description: Package Specification; ComponentLink3URL: http:/www.analog.com/static/imported-files/packages/PKG_PDF/SC70(KS)/KS_3.pdf; ComponentLink4Description: URL Link1; ComponentLink4URL: Product URL:http://www.analog.com/en/special-linear-functions/voltage-references/adr5040/products/product.html
footprint ADI-KS-3_N (SOT23, 3-Leads, Body 2x1.25mm, Pitch 0.65mm, IPC Medium Density)
footprint ADI-KS-3_L (SOT23, 3-Leads, Body 2x1.25mm, Pitch 0.65mm, IPC High Density)
footprint ADI-KS-3_M (SOT23, 3-Leads, Body 2x1.25mm, Pitch 0.65mm, IPC Low Density)
pins: 1 V+ (power), 2 V- (power), 3 NC

## ADR5040BRTZ-R2
designator U?
Precision Micropower Shunt Mode Voltage Reference, 2.048 V Output, Industrial, 3-pin SOT23 (RT-3), Reel; Manufacturer: Analog Devices; PartNumber: ADR5040BRTZ-R2; Ref Out TC (ppm/C): 10; Vout: 2.048V; DatasheetVersion: Rev. B; PackageVersion: 011909-C, 02/2009; PackageReference: RT-3; PackageDescription: 3-Pin Small Outline Transistor Package, Body 2.9 x 1.3 mm, Pitch 0.96 mm; Supplier 1: Digi-Key; Supplier Part Number 1: ADR5040BRTZ-R2TR-ND; Supplier 2: Digi-Key; Supplier Part Number 2: ADR5040BRTZ-R2CT-ND; Supplier 3: Digi-Key; Supplier Part Number 3: ADR5040BRTZ-R2DKR-ND; Supplier 4: Newark; Supplier Part Number 4: 34M4877; Supplier 5: Mouser; Supplier Part Number 5: 584-ADR5040BRTZ-R2; Packing: Reel; Operating Temp Range: -40 to 125 degC; Mounting Technology: Surface Mount; Code_JEDEC: TO-236-AB; ComponentLink1Description: Manufacturer URL; ComponentLink1URL: http://www.analog.com/en/index.html; ComponentLink2Description: Datasheet; ComponentLink2URL: http://www.analog.com/static/imported-files/data_sheets/ADR5040_5041_5043_5044_5045.pdf; ComponentLink3Description: Package Specification; ComponentLink3URL: http:/www.analog.com/static/imported-files/packages/PKG_PDF/SOT-23-3 (RT)/RT_3.pdf; ComponentLink4Description: URL Link1; ComponentLink4URL: Product URL:http://www.analog.com/en/special-linear-functions/voltage-references/adr5040/products/product.html
footprint ADI-RT-3_N (SOT23, 3-Leads, Body 2.9x1.3mm, Pitch 0.96mm, IPC Medium Density)
footprint ADI-RT-3_L (SOT23, 3-Leads, Body 2.9x1.3mm, Pitch 0.96mm, IPC High Density)
footprint ADI-RT-3_M (SOT23, 3-Leads, Body 2.9x1.3mm, Pitch 0.96mm, IPC Low Density)
pins: 1 V+ (power), 2 V- (power), 3 NC

## ADR5040BRTZ-REEL7
designator U?
Precision Micropower Shunt Mode Voltage Reference, 2.048 V Output, Industrial, 3-pin SOT23 (RT-3), Reel; Manufacturer: Analog Devices; PartNumber: ADR5040BRTZ-REEL7; DatasheetVersion: Rev. B; PackageVersion: 011909-C, 02/2009; PackageReference: RT-3; PackageDescription: 3-Pin Small Outline Transistor Package, Body 2.9 x 1.3 mm, Pitch 0.96 mm; Supplier 1: Digi-Key; Supplier Part Number 1: ADR5040BRTZ-REEL7-ND; Supplier 2: Mouser; Supplier Part Number 2: 584-ADR5040BRTZ-R7; Mounting Technology: Surface Mount; Code_JEDEC: TO-236-AB; ComponentLink1Description: Manufacturer URL; ComponentLink1URL: http://www.analog.com/en/index.html; ComponentLink2Description: Datasheet; ComponentLink2URL: http://www.analog.com/static/imported-files/data_sheets/ADR5040_5041_5043_5044_5045.pdf; ComponentLink3Description: Package Specification; ComponentLink3URL: http:/www.analog.com/static/imported-files/packages/PKG_PDF/SOT-23-3 (RT)/RT_3.pdf; ComponentLink4Description: URL Link1; ComponentLink4URL: Product URL:http://www.analog.com/en/special-linear-functions/voltage-references/adr5040/products/product.html
footprint ADI-RT-3_N (SOT23, 3-Leads, Body 2.9x1.3mm, Pitch 0.96mm, IPC Medium Density)
footprint ADI-RT-3_L (SOT23, 3-Leads, Body 2.9x1.3mm, Pitch 0.96mm, IPC High Density)
footprint ADI-RT-3_M (SOT23, 3-Leads, Body 2.9x1.3mm, Pitch 0.96mm, IPC Low Density)
pins: 1 V+ (power), 2 V- (power), 3 NC

## ADR5041AKSZ-R2
designator U?
Precision Micropower Shunt Mode Voltage Reference, 2.5 V Output, Industrial, 3-pin SOT23 (KS-3), Reel; Manufacturer: Analog Devices; PartNumber: ADR5041AKSZ-R2; DatasheetVersion: Rev. B; PackageVersion: 072809-A, 07/2009; PackageReference: KS-3; PackageDescription: 3-Pin Thin Shrink Small Outline Transistor Package, Body 2 x 1.25 mm, Pitch 0.65 mm; Supplier 1: Digi-Key; Supplier Part Number 1: ADR5041AKSZ-R2TR-ND; Supplier 2: Digi-Key; Supplier Part Number 2: ADR5041AKSZ-R2CT-ND; Supplier 3: Digi-Key; Supplier Part Number 3: ADR5041AKSZ-R2DKR-ND; Supplier 4: Newark; Supplier Part Number 4: 34M4880; Supplier 5: Mouser; Supplier Part Number 5: 584-ADR5041AKSZ-R2; Mounting Technology: Surface Mount; ComponentLink1Description: Manufacturer URL; ComponentLink1URL: http://www.analog.com/en/index.html; ComponentLink2Description: Datasheet; ComponentLink2URL: http://www.analog.com/static/imported-files/data_sheets/ADR5040_5041_5043_5044_5045.pdf; ComponentLink3Description: Package Specification; ComponentLink3URL: http:/www.analog.com/static/imported-files/packages/PKG_PDF/SC70(KS)/KS_3.pdf; ComponentLink4Description: URL Link1; ComponentLink4URL: Product URL:http://www.analog.com/en/special-linear-functions/voltage-references/adr5041/products/product.html
footprint ADI-KS-3_N (SOT23, 3-Leads, Body 2x1.25mm, Pitch 0.65mm, IPC Medium Density)
footprint ADI-KS-3_L (SOT23, 3-Leads, Body 2x1.25mm, Pitch 0.65mm, IPC High Density)
footprint ADI-KS-3_M (SOT23, 3-Leads, Body 2x1.25mm, Pitch 0.65mm, IPC Low Density)
pins: 1 V+ (power), 2 V- (power), 3 NC

## ADR5041AKSZ-REEL
designator U?
Precision Micropower Shunt Mode Voltage Reference, 2.5 V Output, Industrial, 3-pin SOT23 (KS-3), Reel; Manufacturer: Analog Devices; PartNumber: ADR5041AKSZ-REEL; DatasheetVersion: Rev. B; PackageVersion: 072809-A, 07/2009; PackageReference: KS-3; PackageDescription: 3-Pin Thin Shrink Small Outline Transistor Package, Body 2 x 1.25 mm, Pitch 0.65 mm; Supplier 1: Digi-Key; Supplier Part Number 1: ADR5041AKSZ-REEL-ND; Supplier 2: Mouser; Supplier Part Number 2: 584-ADR5041AKSZ-R; Mounting Technology: Surface Mount; ComponentLink1Description: Manufacturer URL; ComponentLink1URL: http://www.analog.com/en/index.html; ComponentLink2Description: Datasheet; ComponentLink2URL: http://www.analog.com/static/imported-files/data_sheets/ADR5040_5041_5043_5044_5045.pdf; ComponentLink3Description: Package Specification; ComponentLink3URL: http:/www.analog.com/static/imported-files/packages/PKG_PDF/SC70(KS)/KS_3.pdf; ComponentLink4Description: URL Link1; ComponentLink4URL: Product URL:http://www.analog.com/en/special-linear-functions/voltage-references/adr5041/products/product.html
footprint ADI-KS-3_N (SOT23, 3-Leads, Body 2x1.25mm, Pitch 0.65mm, IPC Medium Density)
footprint ADI-KS-3_L (SOT23, 3-Leads, Body 2x1.25mm, Pitch 0.65mm, IPC High Density)
footprint ADI-KS-3_M (SOT23, 3-Leads, Body 2x1.25mm, Pitch 0.65mm, IPC Low Density)
pins: 1 V+ (power), 2 V- (power), 3 NC

## ADR5041AKSZ-REEL7
designator U?
Precision Micropower Shunt Mode Voltage Reference, 2.5 V Output, Industrial, 3-pin SOT23 (KS-3), Reel; Manufacturer: Analog Devices; PartNumber: ADR5041AKSZ-REEL7; DatasheetVersion: Rev. B; PackageVersion: 072809-A, 07/2009; PackageReference: KS-3; PackageDescription: 3-Pin Thin Shrink Small Outline Transistor Package, Body 2 x 1.25 mm, Pitch 0.65 mm; Supplier 1: Digi-Key; Supplier Part Number 1: ADR5041AKSZ-REEL7TR-ND; Supplier 2: Digi-Key; Supplier Part Number 2: ADR5041AKSZ-REEL7CT-ND; Supplier 3: Digi-Key; Supplier Part Number 3: ADR5041AKSZ-REEL7DKR-ND; Supplier 4: Mouser; Supplier Part Number 4: 584-ADR5041AKSZ-R7; Mounting Technology: Surface Mount; ComponentLink1Description: Manufacturer URL; ComponentLink1URL: http://www.analog.com/en/index.html; ComponentLink2Description: Datasheet; ComponentLink2URL: http://www.analog.com/static/imported-files/data_sheets/ADR5040_5041_5043_5044_5045.pdf; ComponentLink3Description: Package Specification; ComponentLink3URL: http:/www.analog.com/static/imported-files/packages/PKG_PDF/SC70(KS)/KS_3.pdf; ComponentLink4Description: URL Link1; ComponentLink4URL: Product URL:http://www.analog.com/en/special-linear-functions/voltage-references/adr5041/products/product.html
footprint ADI-KS-3_N (SOT23, 3-Leads, Body 2x1.25mm, Pitch 0.65mm, IPC Medium Density)
footprint ADI-KS-3_L (SOT23, 3-Leads, Body 2x1.25mm, Pitch 0.65mm, IPC High Density)
footprint ADI-KS-3_M (SOT23, 3-Leads, Body 2x1.25mm, Pitch 0.65mm, IPC Low Density)
pins: 1 V+ (power), 2 V- (power), 3 NC

## ADR5041ARTZ-R2
designator U?
Precision Micropower Shunt Mode Voltage Reference, 2.5 V Output, Industrial, 3-pin SOT23 (RT-3), Reel; Manufacturer: Analog Devices; PartNumber: ADR5041ARTZ-R2; DatasheetVersion: Rev. B; PackageVersion: 011909-C, 02/2009; PackageReference: RT-3; PackageDescription: 3-Pin Small Outline Transistor Package, Body 2.9 x 1.3 mm, Pitch 0.96 mm; Supplier 1: Digi-Key; Supplier Part Number 1: ADR5041ARTZ-R2TR-ND; Supplier 2: Digi-Key; Supplier Part Number 2: ADR5041ARTZ-R2CT-ND; Supplier 3: Digi-Key; Supplier Part Number 3: ADR5041ARTZ-R2DKR-ND; Supplier 4: Farnell; Supplier Part Number 4: 2074902; Supplier 5: Newark; Supplier Part Number 5: 76T1783; Supplier 6: Newark; Supplier Part Number 6: 02P7393; Supplier 7: Mouser; Supplier Part Number 7: 584-ADR5041ARTZ-R2; Mounting Technology: Surface Mount; Code_JEDEC: TO-236-AB; ComponentLink1Description: Manufacturer URL; ComponentLink1URL: http://www.analog.com/en/index.html; ComponentLink2Description: Datasheet; ComponentLink2URL: http://www.analog.com/static/imported-files/data_sheets/ADR5040_5041_5043_5044_5045.pdf; ComponentLink3Description: Package Specification; ComponentLink3URL: http:/www.analog.com/static/imported-files/packages/PKG_PDF/SOT-23-3 (RT)/RT_3.pdf; ComponentLink4Description: URL Link1; ComponentLink4URL: Product URL:http://www.analog.com/en/special-linear-functions/voltage-references/adr5041/products/product.html
footprint ADI-RT-3_N (SOT23, 3-Leads, Body 2.9x1.3mm, Pitch 0.96mm, IPC Medium Density)
footprint ADI-RT-3_L (SOT23, 3-Leads, Body 2.9x1.3mm, Pitch 0.96mm, IPC High Density)
footprint ADI-RT-3_M (SOT23, 3-Leads, Body 2.9x1.3mm, Pitch 0.96mm, IPC Low Density)
pins: 1 V+ (power), 2 V- (power), 3 NC

## ADR5041ARTZ-REEL
designator U?
Precision Micropower Shunt Mode Voltage Reference, 2.5 V Output, Industrial, 3-pin SOT23 (RT-3), Reel; Manufacturer: Analog Devices; PartNumber: ADR5041ARTZ-REEL; DatasheetVersion: Rev. B; PackageVersion: 011909-C, 02/2009; PackageReference: RT-3; PackageDescription: 3-Pin Small Outline Transistor Package, Body 2.9 x 1.3 mm, Pitch 0.96 mm; Supplier 1: Digi-Key; Supplier Part Number 1: ADR5041ARTZ-REEL-ND; Supplier 2: Mouser; Supplier Part Number 2: 584-ADR5041ARTZ-R; Mounting Technology: Surface Mount; Code_JEDEC: TO-236-AB; ComponentLink1Description: Manufacturer URL; ComponentLink1URL: http://www.analog.com/en/index.html; ComponentLink2Description: Datasheet; ComponentLink2URL: http://www.analog.com/static/imported-files/data_sheets/ADR5040_5041_5043_5044_5045.pdf; ComponentLink3Description: Package Specification; ComponentLink3URL: http:/www.analog.com/static/imported-files/packages/PKG_PDF/SOT-23-3 (RT)/RT_3.pdf; ComponentLink4Description: URL Link1; ComponentLink4URL: Product URL:http://www.analog.com/en/special-linear-functions/voltage-references/adr5041/products/product.html
footprint ADI-RT-3_N (SOT23, 3-Leads, Body 2.9x1.3mm, Pitch 0.96mm, IPC Medium Density)
footprint ADI-RT-3_L (SOT23, 3-Leads, Body 2.9x1.3mm, Pitch 0.96mm, IPC High Density)
footprint ADI-RT-3_M (SOT23, 3-Leads, Body 2.9x1.3mm, Pitch 0.96mm, IPC Low Density)
pins: 1 V+ (power), 2 V- (power), 3 NC

## ADR5041ARTZ-REEL7
designator U?
Precision Micropower Shunt Mode Voltage Reference, 2.5 V Output, Industrial, 3-pin SOT23 (RT-3), Reel; Manufacturer: Analog Devices; PartNumber: ADR5041ARTZ-REEL7; DatasheetVersion: Rev. B; PackageVersion: 011909-C, 02/2009; PackageReference: RT-3; PackageDescription: 3-Pin Small Outline Transistor Package, Body 2.9 x 1.3 mm, Pitch 0.96 mm; Supplier 1: Digi-Key; Supplier Part Number 1: ADR5041ARTZ-REEL7TR-ND; Supplier 2: Digi-Key; Supplier Part Number 2: ADR5041ARTZ-REEL7CT-ND; Supplier 3: Digi-Key; Supplier Part Number 3: ADR5041ARTZ-REEL7DKR-ND; Supplier 4: Newark; Supplier Part Number 4: 34M4882; Supplier 5: Mouser; Supplier Part Number 5: 584-ADR5041ARTZ-R7; Mounting Technology: Surface Mount; Code_JEDEC: TO-236-AB; ComponentLink1Description: Manufacturer URL; ComponentLink1URL: http://www.analog.com/en/index.html; ComponentLink2Description: Datasheet; ComponentLink2URL: http://www.analog.com/static/imported-files/data_sheets/ADR5040_5041_5043_5044_5045.pdf; ComponentLink3Description: Package Specification; ComponentLink3URL: http:/www.analog.com/static/imported-files/packages/PKG_PDF/SOT-23-3 (RT)/RT_3.pdf; ComponentLink4Description: URL Link1; ComponentLink4URL: Product URL:http://www.analog.com/en/special-linear-functions/voltage-references/adr5041/products/product.html
footprint ADI-RT-3_N (SOT23, 3-Leads, Body 2.9x1.3mm, Pitch 0.96mm, IPC Medium Density)
footprint ADI-RT-3_L (SOT23, 3-Leads, Body 2.9x1.3mm, Pitch 0.96mm, IPC High Density)
footprint ADI-RT-3_M (SOT23, 3-Leads, Body 2.9x1.3mm, Pitch 0.96mm, IPC Low Density)
pins: 1 V+ (power), 2 V- (power), 3 NC

## ADR5041BKSZ-R2
designator U?
Precision Micropower Shunt Mode Voltage Reference, 2.5 V Output, Industrial, 3-pin SOT23 (KS-3), Reel; Manufacturer: Analog Devices; PartNumber: ADR5041BKSZ-R2; DatasheetVersion: Rev. B; PackageVersion: 072809-A, 07/2009; PackageReference: KS-3; PackageDescription: 3-Pin Thin Shrink Small Outline Transistor Package, Body 2 x 1.25 mm, Pitch 0.65 mm; Supplier 1: Digi-Key; Supplier Part Number 1: ADR5041BKSZ-R2-ND; Supplier 2: Newark; Supplier Part Number 2: 34M4884; Supplier 3: Mouser; Supplier Part Number 3: 584-ADR5041BKSZ-R2; Mounting Technology: Surface Mount; ComponentLink1Description: Manufacturer URL; ComponentLink1URL: http://www.analog.com/en/index.html; ComponentLink2Description: Datasheet; ComponentLink2URL: http://www.analog.com/static/imported-files/data_sheets/ADR5040_5041_5043_5044_5045.pdf; ComponentLink3Description: Package Specification; ComponentLink3URL: http:/www.analog.com/static/imported-files/packages/PKG_PDF/SC70(KS)/KS_3.pdf; ComponentLink4Description: URL Link1; ComponentLink4URL: Product URL:http://www.analog.com/en/special-linear-functions/voltage-references/adr5041/products/product.html
footprint ADI-KS-3_N (SOT23, 3-Leads, Body 2x1.25mm, Pitch 0.65mm, IPC Medium Density)
footprint ADI-KS-3_L (SOT23, 3-Leads, Body 2x1.25mm, Pitch 0.65mm, IPC High Density)
footprint ADI-KS-3_M (SOT23, 3-Leads, Body 2x1.25mm, Pitch 0.65mm, IPC Low Density)
pins: 1 V+ (power), 2 V- (power), 3 NC

## ADR5041BKSZ-REEL7
designator U?
Precision Micropower Shunt Mode Voltage Reference, 2.5 V Output, Industrial, 3-pin SOT23 (KS-3), Reel; Manufacturer: Analog Devices; PartNumber: ADR5041BKSZ-REEL7; DatasheetVersion: Rev. B; PackageVersion: 072809-A, 07/2009; PackageReference: KS-3; PackageDescription: 3-Pin Thin Shrink Small Outline Transistor Package, Body 2 x 1.25 mm, Pitch 0.65 mm; Supplier 1: Digi-Key; Supplier Part Number 1: ADR5041BKSZ-REEL7TR-ND; Supplier 2: Digi-Key; Supplier Part Number 2: ADR5041BKSZ-REEL7CT-ND; Supplier 3: Digi-Key; Supplier Part Number 3: ADR5041BKSZ-REEL7DKR-ND; Supplier 4: Newark; Supplier Part Number 4: 34M4883; Supplier 5: Mouser; Supplier Part Number 5: 584-ADR5041BKSZ-R7; Mounting Technology: Surface Mount; ComponentLink1Description: Manufacturer URL; ComponentLink1URL: http://www.analog.com/en/index.html; ComponentLink2Description: Datasheet; ComponentLink2URL: http://www.analog.com/static/imported-files/data_sheets/ADR5040_5041_5043_5044_5045.pdf; ComponentLink3Description: Package Specification; ComponentLink3URL: http:/www.analog.com/static/imported-files/packages/PKG_PDF/SC70(KS)/KS_3.pdf; ComponentLink4Description: URL Link1; ComponentLink4URL: Product URL:http://www.analog.com/en/special-linear-functions/voltage-references/adr5041/products/product.html
footprint ADI-KS-3_N (SOT23, 3-Leads, Body 2x1.25mm, Pitch 0.65mm, IPC Medium Density)
footprint ADI-KS-3_L (SOT23, 3-Leads, Body 2x1.25mm, Pitch 0.65mm, IPC High Density)
footprint ADI-KS-3_M (SOT23, 3-Leads, Body 2x1.25mm, Pitch 0.65mm, IPC Low Density)
pins: 1 V+ (power), 2 V- (power), 3 NC

## ADR5041BRTZ-R2
designator U?
Precision Micropower Shunt Mode Voltage Reference, 2.5 V Output, Industrial, 3-pin SOT23 (RT-3), Reel; Manufacturer: Analog Devices; PartNumber: ADR5041BRTZ-R2; DatasheetVersion: Rev. B; PackageVersion: 011909-C, 02/2009; PackageReference: RT-3; PackageDescription: 3-Pin Small Outline Transistor Package, Body 2.9 x 1.3 mm, Pitch 0.96 mm; Supplier 1: Digi-Key; Supplier Part Number 1: ADR5041BRTZ-R2TR-ND; Supplier 2: Digi-Key; Supplier Part Number 2: ADR5041BRTZ-R2CT-ND; Supplier 3: Digi-Key; Supplier Part Number 3: ADR5041BRTZ-R2DKR-ND; Supplier 4: Farnell; Supplier Part Number 4: 1814352; Supplier 5: Newark; Supplier Part Number 5: 34M4886; Supplier 6: Mouser; Supplier Part Number 6: 584-ADR5041BRTZ-R2; Mounting Technology: Surface Mount; Code_JEDEC: TO-236-AB; ComponentLink1Description: Manufacturer URL; ComponentLink1URL: http://www.analog.com/en/index.html; ComponentLink2Description: Datasheet; ComponentLink2URL: http://www.analog.com/static/imported-files/data_sheets/ADR5040_5041_5043_5044_5045.pdf; ComponentLink3Description: Package Specification; ComponentLink3URL: http:/www.analog.com/static/imported-files/packages/PKG_PDF/SOT-23-3 (RT)/RT_3.pdf; ComponentLink4Description: URL Link1; ComponentLink4URL: Product URL:http://www.analog.com/en/special-linear-functions/voltage-references/adr5041/products/product.html
footprint ADI-RT-3_N (SOT23, 3-Leads, Body 2.9x1.3mm, Pitch 0.96mm, IPC Medium Density)
footprint ADI-RT-3_L (SOT23, 3-Leads, Body 2.9x1.3mm, Pitch 0.96mm, IPC High Density)
footprint ADI-RT-3_M (SOT23, 3-Leads, Body 2.9x1.3mm, Pitch 0.96mm, IPC Low Density)
pins: 1 V+ (power), 2 V- (power), 3 NC